# Altium footprint library Sensor.PcbLib: 1 footprints
Each footprint in its own frame and in the unit in brackets; x right, y up, seen from the top. Pads: shape width x height; smd on the part's side, far side on the other; paste and mask are expansions set on the pad; w line width, h text height; cw(c..) or ccw(c..) is an arc to the next point about the centre after c.
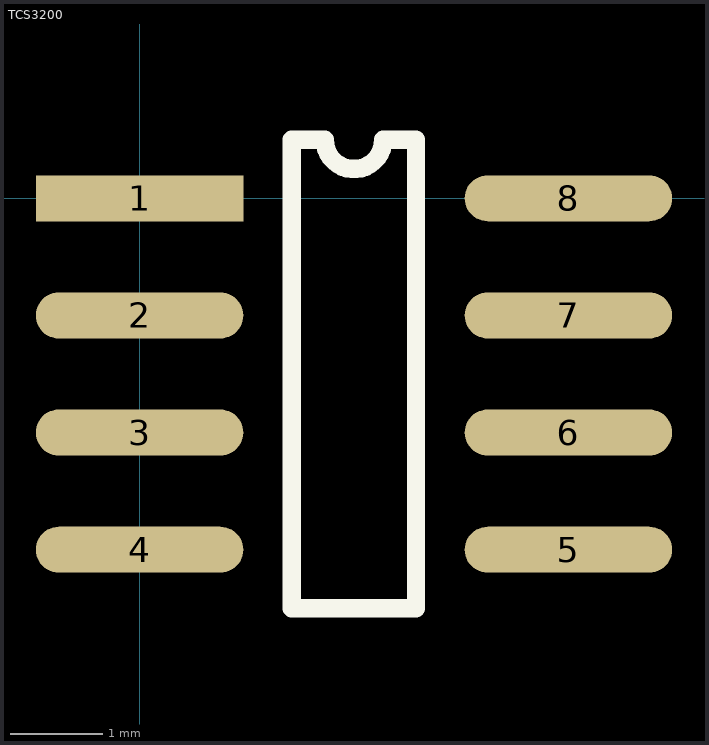
[diagram p0: the footprint, top view; thin cyan lines are the x and y axes]

## TCS3200 [mm]
pads (8):
  rect 2.25x0.5 smd: 1(0,0)
  oval 2.25x0.5 smd: 2(0,-1.27) 3(0,-2.54) 4(0,-3.81) 5(4.65,-3.81) 6(4.65,-2.54) 7(4.65,-1.27) 8(4.65,0)
Top Overlay:
  lines w0.2: 1.651,-4.445 2.997,-4.445 2.997,0.635 2.642,0.635 cw(c2.325,0.635) 2.007,0.635 1.651,0.635 1.651,-4.445